# Altium schematic symbol library SCH-MCU-WCH-CH541G-SOP16.SchLib: 1 symbol
Pins are listed as number, name and electrical type; pins without a type are passive.

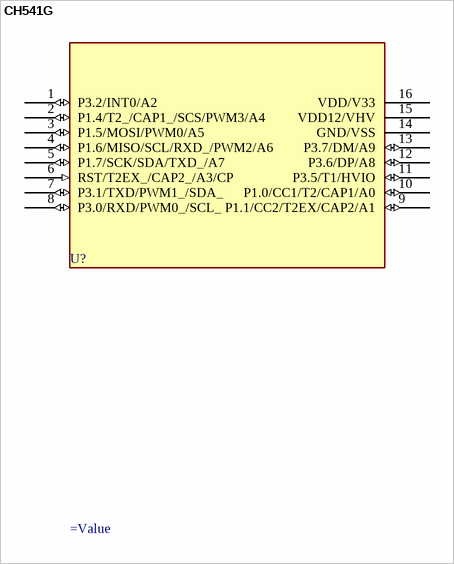
[diagram p0: symbol CH541G]

## CH541G
designator U?
pins: 1 P3.2/INT0/A2 (io), 2 P1.4/T2_/CAP1_/SCS/PWM3/A4 (io), 3 P1.5/MOSI/PWM0/A5 (io), 4 P1.6/MISO/SCL/RXD_/PWM2/A6 (io), 5 P1.7/SCK/SDA/TXD_/A7 (io), 6 RST/T2EX_/CAP2_/A3/CP (in), 7 P3.1/TXD/PWM1_/SDA_ (io), 8 P3.0/RXD/PWM0_/SCL_ (io), 9 P1.1/CC2/T2EX/CAP2/A1 (io), 10 P1.0/CC1/T2/CAP1/A0 (io), 11 P3.5/T1/HVIO (io), 12 P3.6/DP/A8 (io), 13 P3.7/DM/A9 (io), 14 GND/VSS (power), 15 VDD12/VHV (power), 16 VDD/V33 (power)
2 alternate drawings of the same symbol